# Altium schematic symbol library 453-00223_BL54L15u_Chip ANT_SCH_Symbol_Altium.SchLib: 1 symbol
Pins are listed as number, name and electrical type; pins without a type are passive.

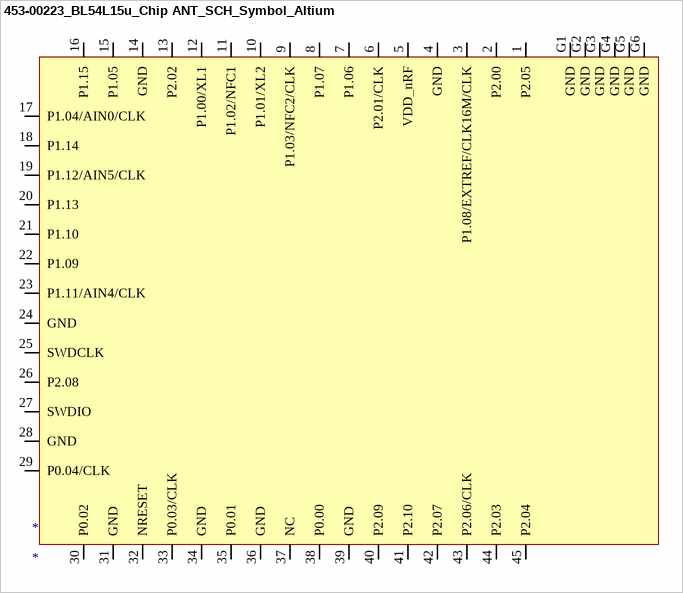
[diagram p0: symbol 453-00223_BL54L15u_Chip ANT_SCH_Symbol_Altium]

## 453-00223_BL54L15u_Chip ANT_SCH_Symbol_Altium
designator *
pins: 1 P2.05, 2 P2.00, 3 P1.08/EXTREF/CLK16M/CLK, 4 GND, 5 VDD_nRF, 6 P2.01/CLK, 7 P1.06, 8 P1.07, 9 P1.03/NFC2/CLK, 10 P1.01/XL2, 11 P1.02/NFC1, 12 P1.00/XL1, 13 P2.02, 14 GND, 15 P1.05, 16 P1.15, 17 P1.04/AIN0/CLK, 18 P1.14, 19 P1.12/AIN5/CLK, 20 P1.13, 21 P1.10, 22 P1.09, 23 P1.11/AIN4/CLK, 24 GND, 25 SWDCLK, 26 P2.08, 27 SWDIO, 28 GND, 29 P0.04/CLK, 30 P0.02, 31 GND, 32 NRESET, 33 P0.03/CLK, 34 GND, 35 P0.01, 36 GND, 37 NC, 38 P0.00, 39 GND, 40 P2.09, 41 P2.10, 42 P2.07, 43 P2.06/CLK, 44 P2.03, 45 P2.04, G1 GND, G2 GND, G3 GND, G4 GND, G5 GND, G6 GND